# Altium schematic symbol library resistor.SCHLIB: 767 symbols (part 4 of 4)
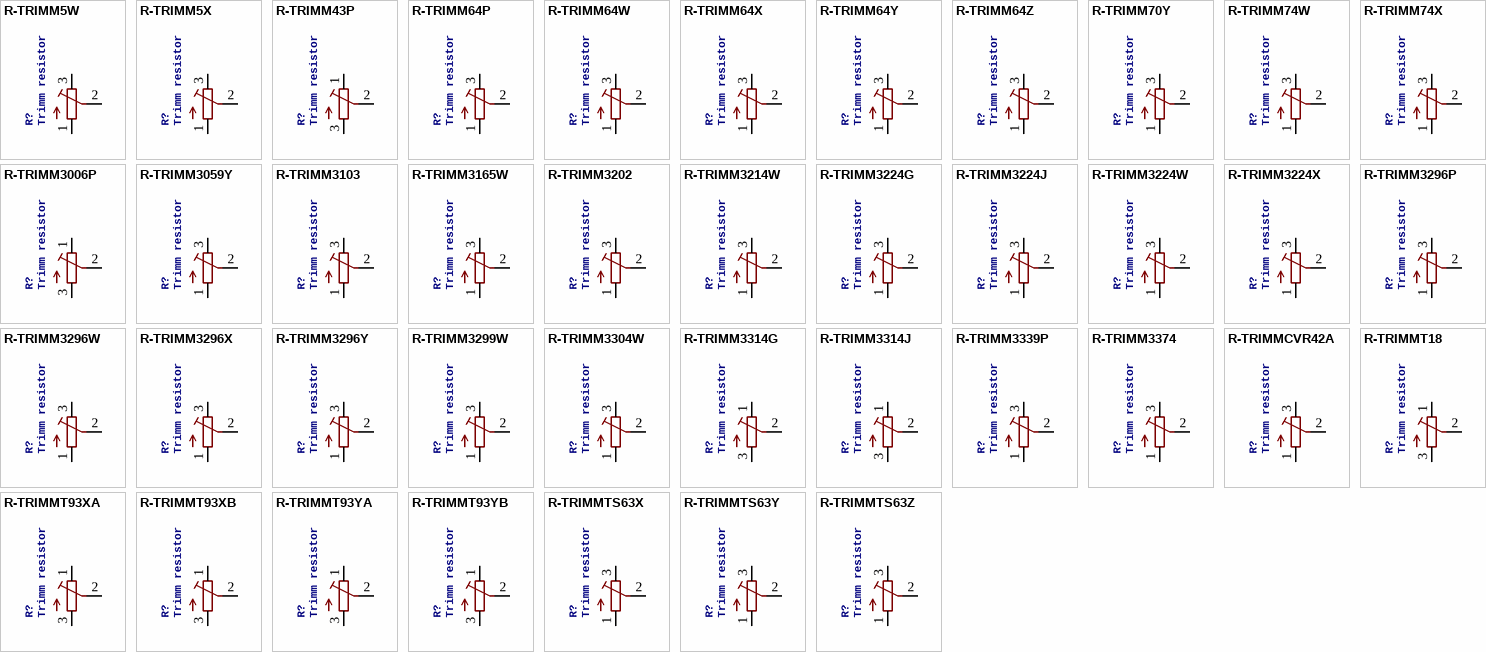
[diagram p22: symbols R-TRIMM5W to R-TRIMMTS63Z]

## R-TRIMM3296P
designator R?, comment Trimm resistor
GateName_1: G$1; SymbolName_1: R-TRIM-1; DeviceName: 3296P; DeviceSetName: R-TRIMM; LibraryName: resistor; Package: RTRIM3296P
footprint RTRIM3296P
pins: 1 A, 2 S, 3 E

## R-TRIMM3296W
designator R?, comment Trimm resistor
GateName_1: G$1; SymbolName_1: R-TRIM-1; DeviceName: 3296W; DeviceSetName: R-TRIMM; LibraryName: resistor; Package: RTRIM3296W
footprint RTRIM3296W
pins: 1 A, 2 S, 3 E

## R-TRIMM3296X
designator R?, comment Trimm resistor
GateName_1: G$1; SymbolName_1: R-TRIM-1; DeviceName: 3296X; DeviceSetName: R-TRIMM; LibraryName: resistor; Package: RTRIM3296X
footprint RTRIM3296X
pins: 1 A, 2 S, 3 E

## R-TRIMM3296Y
designator R?, comment Trimm resistor
GateName_1: G$1; SymbolName_1: R-TRIM-1; DeviceName: 3296Y; DeviceSetName: R-TRIMM; LibraryName: resistor; Package: RTRIM3296Y
footprint RTRIM3296Y
pins: 1 A, 2 S, 3 E

## R-TRIMM3299W
designator R?, comment Trimm resistor
GateName_1: G$1; SymbolName_1: R-TRIM-1; DeviceName: 3299W; DeviceSetName: R-TRIMM; LibraryName: resistor; Package: RTRIM3299W
footprint RTRIM3299W
pins: 1 A, 2 S, 3 E

## R-TRIMM3304W
designator R?, comment Trimm resistor
GateName_1: G$1; SymbolName_1: R-TRIM-1; DeviceName: 3304W; DeviceSetName: R-TRIMM; LibraryName: resistor; Package: RTRIM3304W
footprint RTRIM3304W
pins: 1 A, 2 S, 3 E

## R-TRIMM3314G
designator R?, comment Trimm resistor
GateName_1: G$1; SymbolName_1: R-TRIM-1; DeviceName: 3314G; DeviceSetName: R-TRIMM; LibraryName: resistor; Package: RTRIM3314G
footprint RTRIM3314G
pins: 1 E, 2 S, 3 A

## R-TRIMM3314J
designator R?, comment Trimm resistor
GateName_1: G$1; SymbolName_1: R-TRIM-1; DeviceName: 3314J; DeviceSetName: R-TRIMM; LibraryName: resistor; Package: RTRIM3314J
footprint RTRIM3314J
pins: 1 E, 2 S, 3 A

## R-TRIMM3339P
designator R?, comment Trimm resistor
GateName_1: G$1; SymbolName_1: R-TRIM-1; DeviceName: 3339P; DeviceSetName: R-TRIMM; LibraryName: resistor; Package: RTRIM3339P
footprint RTRIM3339P
pins: 1 A, 2 S, 3 E

## R-TRIMM3374
designator R?, comment Trimm resistor
GateName_1: G$1; SymbolName_1: R-TRIM-1; DeviceName: 3374; DeviceSetName: R-TRIMM; LibraryName: resistor; Package: RTRIM3374
footprint RTRIM3374
pins: 1 A, 2 S, 3 E

## R-TRIMMCVR42A
designator R?, comment Trimm resistor
GateName_1: G$1; SymbolName_1: R-TRIM-1; DeviceName: CVR42A; DeviceSetName: R-TRIMM; LibraryName: resistor; Package: RTRIMCVR42A
footprint RTRIMCVR42A
pins: 1 A, 2 S, 3 E

## R-TRIMMT18
designator R?, comment Trimm resistor
GateName_1: G$1; SymbolName_1: R-TRIM-1; DeviceName: T18; DeviceSetName: R-TRIMM; LibraryName: resistor; Package: RTRIMT18
footprint RTRIMT18
pins: 1 E, 2 S, 3 A

## R-TRIMMT93XA
designator R?, comment Trimm resistor
GateName_1: G$1; SymbolName_1: R-TRIM-1; DeviceName: T93XA; DeviceSetName: R-TRIMM; LibraryName: resistor; Package: RTRIMT93XA
footprint RTRIMT93XA
pins: 1 E, 2 S, 3 A

## R-TRIMMT93XB
designator R?, comment Trimm resistor
GateName_1: G$1; SymbolName_1: R-TRIM-1; DeviceName: T93XB; DeviceSetName: R-TRIMM; LibraryName: resistor; Package: RTRIMT93XB
footprint RTRIMT93XB
pins: 1 E, 2 S, 3 A

## R-TRIMMT93YA
designator R?, comment Trimm resistor
GateName_1: G$1; SymbolName_1: R-TRIM-1; DeviceName: T93YA; DeviceSetName: R-TRIMM; LibraryName: resistor; Package: RTRIMT93YA
footprint RTRIMT93YA
pins: 1 E, 2 S, 3 A

## R-TRIMMT93YB
designator R?, comment Trimm resistor
GateName_1: G$1; SymbolName_1: R-TRIM-1; DeviceName: T93YB; DeviceSetName: R-TRIMM; LibraryName: resistor; Package: RTRIMT93YB
footprint RTRIMT93YB
pins: 1 E, 2 S, 3 A

## R-TRIMMTS63X
designator R?, comment Trimm resistor
GateName_1: G$1; SymbolName_1: R-TRIM-1; DeviceName: TS63X; DeviceSetName: R-TRIMM; LibraryName: resistor; Package: RTRIMTS63X
footprint RTRIMTS63X
pins: 1 A, 2 S, 3 E

## R-TRIMMTS63Y
designator R?, comment Trimm resistor
GateName_1: G$1; SymbolName_1: R-TRIM-1; DeviceName: TS63Y; DeviceSetName: R-TRIMM; LibraryName: resistor; Package: RTRIMTS63Y
footprint RTRIMTS63Y
pins: 1 A, 2 S, 3 E

## R-TRIMMTS63Z
designator R?, comment Trimm resistor
GateName_1: G$1; SymbolName_1: R-TRIM-1; DeviceName: TS63Z; DeviceSetName: R-TRIMM; LibraryName: resistor; Package: RTRIMTS63Z
footprint RTRIMTS63Z
pins: 1 A, 2 S, 3 E

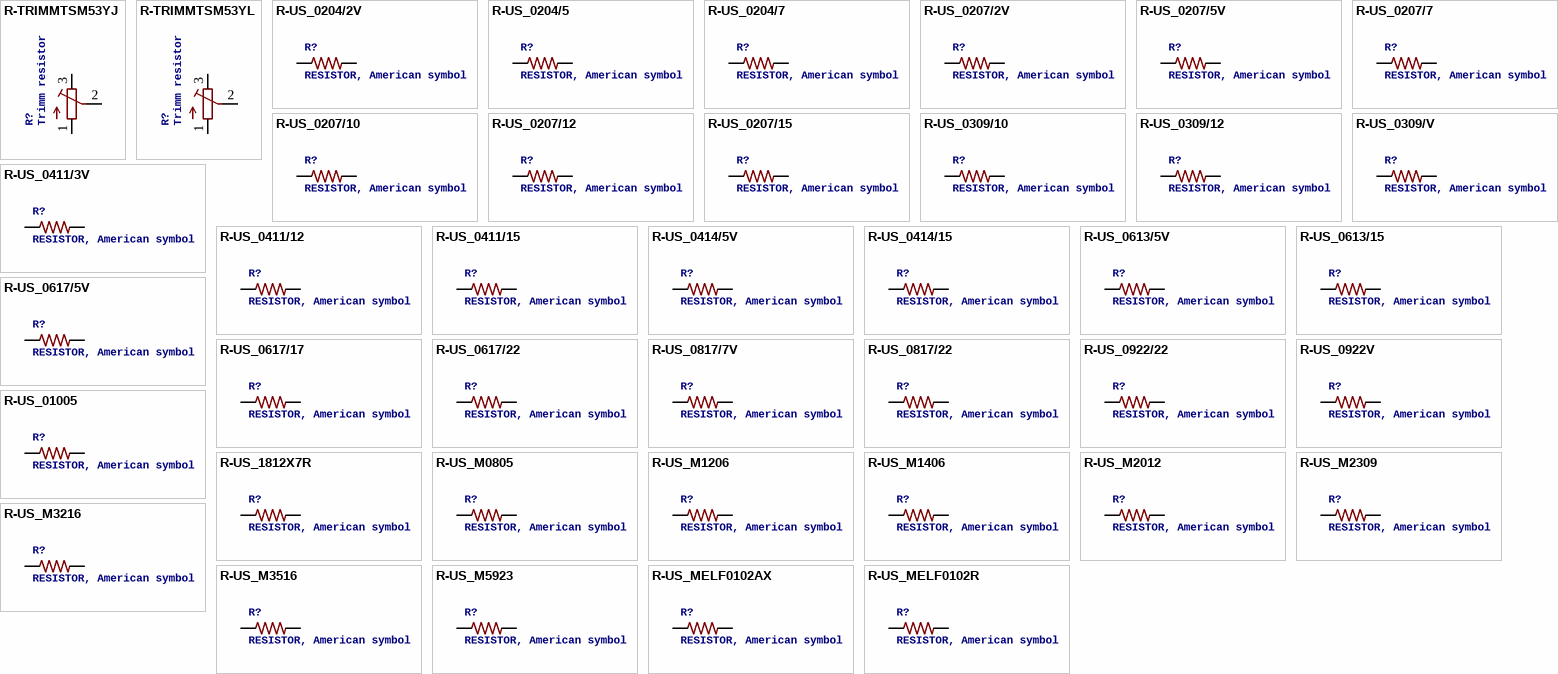
[diagram p17: symbols R-TRIMMTSM53YJ to R-US_MELF0102R]

## R-TRIMMTSM53YJ
designator R?, comment Trimm resistor
GateName_1: G$1; SymbolName_1: R-TRIM-1; DeviceName: TSM53YJ; DeviceSetName: R-TRIMM; LibraryName: resistor; Package: RTRIMTSM53YJ
footprint RTRIMTSM53YJ
pins: 1 A, 2 S, 3 E

## R-TRIMMTSM53YL
designator R?, comment Trimm resistor
GateName_1: G$1; SymbolName_1: R-TRIM-1; DeviceName: TSM53YL; DeviceSetName: R-TRIMM; LibraryName: resistor; Package: RTRIMTSM53YL
footprint RTRIMTSM53YL
pins: 1 A, 2 S, 3 E

## R-US_0204/2V
designator R?, comment RESISTOR, American symbol
GateName_1: G$1; SymbolName_1: R-US; DeviceName: 0204/2V; DeviceSetName: R-US_; LibraryName: resistor; Package: 0204V
footprint 0204V
pins: 1, 2

## R-US_0204/5
designator R?, comment RESISTOR, American symbol
GateName_1: G$1; SymbolName_1: R-US; DeviceName: 0204/5; DeviceSetName: R-US_; LibraryName: resistor; Package: 0204/5
footprint 0204/5
pins: 1, 2

## R-US_0204/7
designator R?, comment RESISTOR, American symbol
GateName_1: G$1; SymbolName_1: R-US; DeviceName: 0204/7; DeviceSetName: R-US_; LibraryName: resistor; Package: 0204/7
footprint 0204/7
pins: 1, 2

## R-US_0207/2V
designator R?, comment RESISTOR, American symbol
GateName_1: G$1; SymbolName_1: R-US; DeviceName: 0207/2V; DeviceSetName: R-US_; LibraryName: resistor; Package: 0207/2V
footprint 0207/2V
pins: 1, 2

## R-US_0207/5V
designator R?, comment RESISTOR, American symbol
GateName_1: G$1; SymbolName_1: R-US; DeviceName: 0207/5V; DeviceSetName: R-US_; LibraryName: resistor; Package: 0207/5V
footprint 0207/5V
pins: 1, 2

## R-US_0207/7
designator R?, comment RESISTOR, American symbol
GateName_1: G$1; SymbolName_1: R-US; DeviceName: 0207/7; DeviceSetName: R-US_; LibraryName: resistor; Package: 0207/7
footprint 0207/7
pins: 1, 2

## R-US_0207/10
designator R?, comment RESISTOR, American symbol
GateName_1: G$1; SymbolName_1: R-US; DeviceName: 0207/10; DeviceSetName: R-US_; LibraryName: resistor; Package: 0207/10
footprint 0207/10
pins: 1, 2

## R-US_0207/12
designator R?, comment RESISTOR, American symbol
GateName_1: G$1; SymbolName_1: R-US; DeviceName: 0207/12; DeviceSetName: R-US_; LibraryName: resistor; Package: 0207/12
footprint 0207/12
pins: 1, 2

## R-US_0207/15
designator R?, comment RESISTOR, American symbol
GateName_1: G$1; SymbolName_1: R-US; DeviceName: 0207/15; DeviceSetName: R-US_; LibraryName: resistor; Package: 0207/15
footprint 0207/15
pins: 1, 2

## R-US_0309/10
designator R?, comment RESISTOR, American symbol
GateName_1: G$1; SymbolName_1: R-US; DeviceName: 0309/10; DeviceSetName: R-US_; LibraryName: resistor; Package: 0309/10
footprint 0309/10
pins: 1, 2

## R-US_0309/12
designator R?, comment RESISTOR, American symbol
GateName_1: G$1; SymbolName_1: R-US; DeviceName: 0309/12; DeviceSetName: R-US_; LibraryName: resistor; Package: 0309/12
footprint 0309/12
pins: 1, 2

## R-US_0309/V
designator R?, comment RESISTOR, American symbol
GateName_1: G$1; SymbolName_1: R-US; DeviceName: 0309/V; DeviceSetName: R-US_; LibraryName: resistor; Package: 0309V
footprint 0309V
pins: 1, 2

## R-US_0411/3V
designator R?, comment RESISTOR, American symbol
GateName_1: G$1; SymbolName_1: R-US; DeviceName: 0411/3V; DeviceSetName: R-US_; LibraryName: resistor; Package: 0411V
footprint 0411V
pins: 1, 2

## R-US_0411/12
designator R?, comment RESISTOR, American symbol
GateName_1: G$1; SymbolName_1: R-US; DeviceName: 0411/12; DeviceSetName: R-US_; LibraryName: resistor; Package: 0411/12
footprint 0411/12
pins: 1, 2

## R-US_0411/15
designator R?, comment RESISTOR, American symbol
GateName_1: G$1; SymbolName_1: R-US; DeviceName: 0411/15; DeviceSetName: R-US_; LibraryName: resistor; Package: 0411/15
footprint 0411/15
pins: 1, 2

## R-US_0414/5V
designator R?, comment RESISTOR, American symbol
GateName_1: G$1; SymbolName_1: R-US; DeviceName: 0414/5V; DeviceSetName: R-US_; LibraryName: resistor; Package: 0414V
footprint 0414V
pins: 1, 2

## R-US_0414/15
designator R?, comment RESISTOR, American symbol
GateName_1: G$1; SymbolName_1: R-US; DeviceName: 0414/15; DeviceSetName: R-US_; LibraryName: resistor; Package: 0414/15
footprint 0414/15
pins: 1, 2

## R-US_0613/5V
designator R?, comment RESISTOR, American symbol
GateName_1: G$1; SymbolName_1: R-US; DeviceName: 0613/5V; DeviceSetName: R-US_; LibraryName: resistor; Package: P0613V
footprint P0613V
pins: 1, 2

## R-US_0613/15
designator R?, comment RESISTOR, American symbol
GateName_1: G$1; SymbolName_1: R-US; DeviceName: 0613/15; DeviceSetName: R-US_; LibraryName: resistor; Package: P0613/15
footprint P0613/15
pins: 1, 2

## R-US_0617/5V
designator R?, comment RESISTOR, American symbol
GateName_1: G$1; SymbolName_1: R-US; DeviceName: 0617/5V; DeviceSetName: R-US_; LibraryName: resistor; Package: 0617V
footprint 0617V
pins: 1, 2

## R-US_0617/17
designator R?, comment RESISTOR, American symbol
GateName_1: G$1; SymbolName_1: R-US; DeviceName: 0617/17; DeviceSetName: R-US_; LibraryName: resistor; Package: 0617/17
footprint 0617/17
pins: 1, 2

## R-US_0617/22
designator R?, comment RESISTOR, American symbol
GateName_1: G$1; SymbolName_1: R-US; DeviceName: 0617/22; DeviceSetName: R-US_; LibraryName: resistor; Package: 0617/22
footprint 0617/22
pins: 1, 2

## R-US_0817/7V
designator R?, comment RESISTOR, American symbol
GateName_1: G$1; SymbolName_1: R-US; DeviceName: 0817/7V; DeviceSetName: R-US_; LibraryName: resistor; Package: P0817V
footprint P0817V
pins: 1, 2

## R-US_0817/22
designator R?, comment RESISTOR, American symbol
GateName_1: G$1; SymbolName_1: R-US; DeviceName: 0817/22; DeviceSetName: R-US_; LibraryName: resistor; Package: P0817/22
footprint P0817/22
pins: 1, 2

## R-US_0922/22
designator R?, comment RESISTOR, American symbol
GateName_1: G$1; SymbolName_1: R-US; DeviceName: 0922/22; DeviceSetName: R-US_; LibraryName: resistor; Package: 0922/22
footprint 0922/22
pins: 1, 2

## R-US_0922V
designator R?, comment RESISTOR, American symbol
GateName_1: G$1; SymbolName_1: R-US; DeviceName: 0922V; DeviceSetName: R-US_; LibraryName: resistor; Package: 0922V
footprint 0922V
pins: 1, 2

## R-US_01005
designator R?, comment RESISTOR, American symbol
GateName_1: G$1; SymbolName_1: R-US; DeviceName: 01005; DeviceSetName: R-US_; LibraryName: resistor; Package: R01005
footprint R01005
pins: 1, 2

## R-US_1812X7R
designator R?, comment RESISTOR, American symbol
GateName_1: G$1; SymbolName_1: R-US; DeviceName: 1812X7R; DeviceSetName: R-US_; LibraryName: resistor; Package: 1812X7R
footprint 1812X7R
pins: 1, 2

## R-US_M0805
designator R?, comment RESISTOR, American symbol
GateName_1: G$1; SymbolName_1: R-US; DeviceName: M0805; DeviceSetName: R-US_; LibraryName: resistor; Package: M0805
footprint M0805
pins: 1, 2

## R-US_M1206
designator R?, comment RESISTOR, American symbol
GateName_1: G$1; SymbolName_1: R-US; DeviceName: M1206; DeviceSetName: R-US_; LibraryName: resistor; Package: M1206
footprint M1206
pins: 1, 2

## R-US_M1406
designator R?, comment RESISTOR, American symbol
GateName_1: G$1; SymbolName_1: R-US; DeviceName: M1406; DeviceSetName: R-US_; LibraryName: resistor; Package: M1406
footprint M1406
pins: 1, 2

## R-US_M2012
designator R?, comment RESISTOR, American symbol
GateName_1: G$1; SymbolName_1: R-US; DeviceName: M2012; DeviceSetName: R-US_; LibraryName: resistor; Package: M2012
footprint M2012
pins: 1, 2

## R-US_M2309
designator R?, comment RESISTOR, American symbol
GateName_1: G$1; SymbolName_1: R-US; DeviceName: M2309; DeviceSetName: R-US_; LibraryName: resistor; Package: M2309
footprint M2309
pins: 1, 2

## R-US_M3216
designator R?, comment RESISTOR, American symbol
GateName_1: G$1; SymbolName_1: R-US; DeviceName: M3216; DeviceSetName: R-US_; LibraryName: resistor; Package: M3216
footprint M3216
pins: 1, 2

## R-US_M3516
designator R?, comment RESISTOR, American symbol
GateName_1: G$1; SymbolName_1: R-US; DeviceName: M3516; DeviceSetName: R-US_; LibraryName: resistor; Package: M3516
footprint M3516
pins: 1, 2

## R-US_M5923
designator R?, comment RESISTOR, American symbol
GateName_1: G$1; SymbolName_1: R-US; DeviceName: M5923; DeviceSetName: R-US_; LibraryName: resistor; Package: M5923
footprint M5923
pins: 1, 2

## R-US_MELF0102AX
designator R?, comment RESISTOR, American symbol
GateName_1: G$1; SymbolName_1: R-US; DeviceName: MELF0102AX; DeviceSetName: R-US_; LibraryName: resistor; Package: MINI_MELF-0102AX
footprint MINI_MELF-0102AX
pins: 1, 2

## R-US_MELF0102R
designator R?, comment RESISTOR, American symbol
GateName_1: G$1; SymbolName_1: R-US; DeviceName: MELF0102R; DeviceSetName: R-US_; LibraryName: resistor; Package: MINI_MELF-0102R
footprint MINI_MELF-0102R
pins: 1, 2

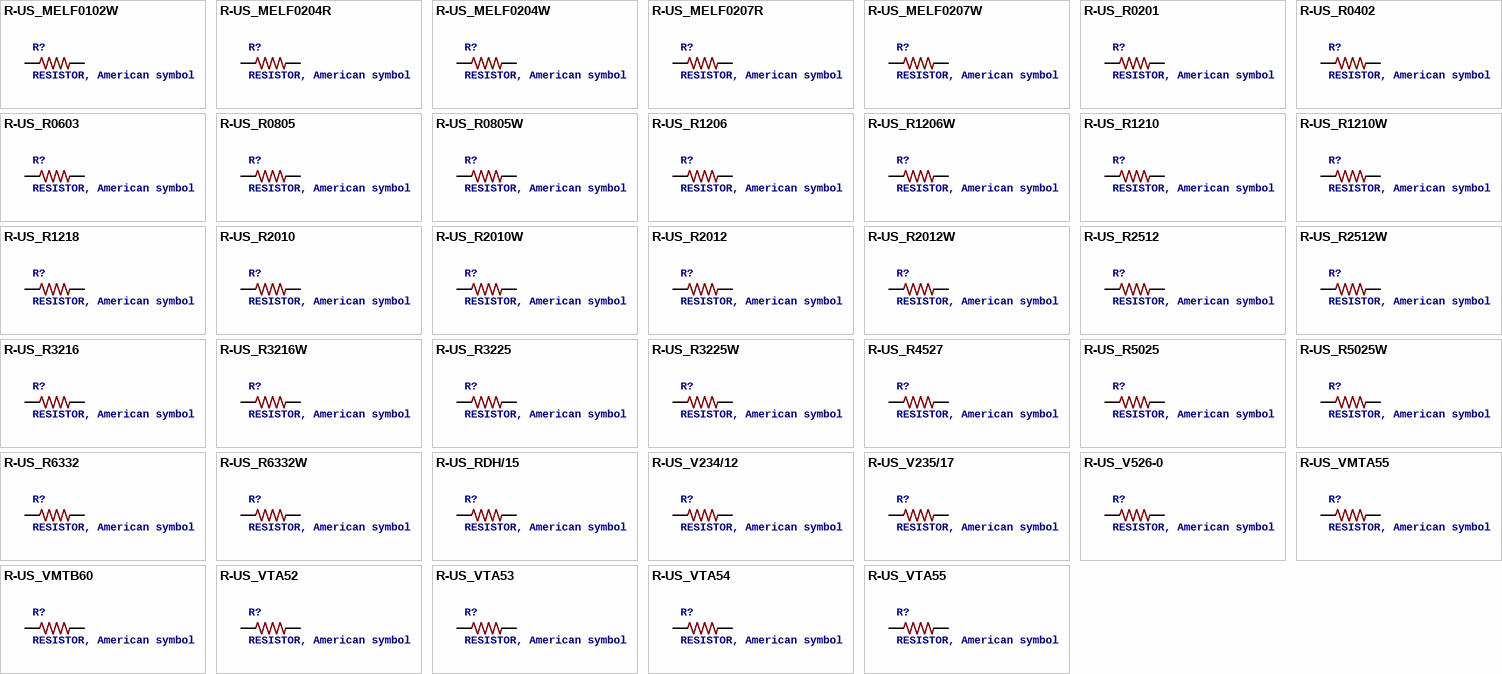
[diagram p18: symbols R-US_MELF0102W to R-US_VTA55]

## R-US_MELF0102W
designator R?, comment RESISTOR, American symbol
GateName_1: G$1; SymbolName_1: R-US; DeviceName: MELF0102W; DeviceSetName: R-US_; LibraryName: resistor; Package: MINI_MELF-0102W
footprint MINI_MELF-0102W
pins: 1, 2

## R-US_MELF0204R
designator R?, comment RESISTOR, American symbol
GateName_1: G$1; SymbolName_1: R-US; DeviceName: MELF0204R; DeviceSetName: R-US_; LibraryName: resistor; Package: MINI_MELF-0204R
footprint MINI_MELF-0204R
pins: 1, 2

## R-US_MELF0204W
designator R?, comment RESISTOR, American symbol
GateName_1: G$1; SymbolName_1: R-US; DeviceName: MELF0204W; DeviceSetName: R-US_; LibraryName: resistor; Package: MINI_MELF-0204W
footprint MINI_MELF-0204W
pins: 1, 2

## R-US_MELF0207R
designator R?, comment RESISTOR, American symbol
GateName_1: G$1; SymbolName_1: R-US; DeviceName: MELF0207R; DeviceSetName: R-US_; LibraryName: resistor; Package: MINI_MELF-0207R
footprint MINI_MELF-0207R
pins: 1, 2

## R-US_MELF0207W
designator R?, comment RESISTOR, American symbol
GateName_1: G$1; SymbolName_1: R-US; DeviceName: MELF0207W; DeviceSetName: R-US_; LibraryName: resistor; Package: MINI_MELF-0207W
footprint MINI_MELF-0207W
pins: 1, 2

## R-US_R0201
designator R?, comment RESISTOR, American symbol
GateName_1: G$1; SymbolName_1: R-US; DeviceName: R0201; DeviceSetName: R-US_; LibraryName: resistor; Package: R0201
footprint R0201
pins: 1, 2

## R-US_R0402
designator R?, comment RESISTOR, American symbol
GateName_1: G$1; SymbolName_1: R-US; DeviceName: R0402; DeviceSetName: R-US_; LibraryName: resistor; Package: R0402
footprint R0402
pins: 1, 2

## R-US_R0603
designator R?, comment RESISTOR, American symbol
GateName_1: G$1; SymbolName_1: R-US; DeviceName: R0603; DeviceSetName: R-US_; LibraryName: resistor; Package: R0603
footprint R0603
pins: 1, 2

## R-US_R0805
designator R?, comment RESISTOR, American symbol
GateName_1: G$1; SymbolName_1: R-US; DeviceName: R0805; DeviceSetName: R-US_; LibraryName: resistor; Package: R0805
footprint R0805
pins: 1, 2

## R-US_R0805W
designator R?, comment RESISTOR, American symbol
GateName_1: G$1; SymbolName_1: R-US; DeviceName: R0805W; DeviceSetName: R-US_; LibraryName: resistor; Package: R0805W
footprint R0805W
pins: 1, 2

## R-US_R1206
designator R?, comment RESISTOR, American symbol
GateName_1: G$1; SymbolName_1: R-US; DeviceName: R1206; DeviceSetName: R-US_; LibraryName: resistor; Package: R1206
footprint R1206
pins: 1, 2

## R-US_R1206W
designator R?, comment RESISTOR, American symbol
GateName_1: G$1; SymbolName_1: R-US; DeviceName: R1206W; DeviceSetName: R-US_; LibraryName: resistor; Package: R1206W
footprint R1206W
pins: 1, 2

## R-US_R1210
designator R?, comment RESISTOR, American symbol
GateName_1: G$1; SymbolName_1: R-US; DeviceName: R1210; DeviceSetName: R-US_; LibraryName: resistor; Package: R1210
footprint R1210
pins: 1, 2

## R-US_R1210W
designator R?, comment RESISTOR, American symbol
GateName_1: G$1; SymbolName_1: R-US; DeviceName: R1210W; DeviceSetName: R-US_; LibraryName: resistor; Package: R1210W
footprint R1210W
pins: 1, 2

## R-US_R1218
designator R?, comment RESISTOR, American symbol
GateName_1: G$1; SymbolName_1: R-US; DeviceName: R1218; DeviceSetName: R-US_; LibraryName: resistor; Package: R1218
footprint R1218
pins: 1, 2

## R-US_R2010
designator R?, comment RESISTOR, American symbol
GateName_1: G$1; SymbolName_1: R-US; DeviceName: R2010; DeviceSetName: R-US_; LibraryName: resistor; Package: R2010
footprint R2010
pins: 1, 2

## R-US_R2010W
designator R?, comment RESISTOR, American symbol
GateName_1: G$1; SymbolName_1: R-US; DeviceName: R2010W; DeviceSetName: R-US_; LibraryName: resistor; Package: R2010W
footprint R2010W
pins: 1, 2

## R-US_R2012
designator R?, comment RESISTOR, American symbol
GateName_1: G$1; SymbolName_1: R-US; DeviceName: R2012; DeviceSetName: R-US_; LibraryName: resistor; Package: R2012
footprint R2012
pins: 1, 2

## R-US_R2012W
designator R?, comment RESISTOR, American symbol
GateName_1: G$1; SymbolName_1: R-US; DeviceName: R2012W; DeviceSetName: R-US_; LibraryName: resistor; Package: R2012W
footprint R2012W
pins: 1, 2

## R-US_R2512
designator R?, comment RESISTOR, American symbol
GateName_1: G$1; SymbolName_1: R-US; DeviceName: R2512; DeviceSetName: R-US_; LibraryName: resistor; Package: R2512
footprint R2512
pins: 1, 2

## R-US_R2512W
designator R?, comment RESISTOR, American symbol
GateName_1: G$1; SymbolName_1: R-US; DeviceName: R2512W; DeviceSetName: R-US_; LibraryName: resistor; Package: R2512W
footprint R2512W
pins: 1, 2

## R-US_R3216
designator R?, comment RESISTOR, American symbol
GateName_1: G$1; SymbolName_1: R-US; DeviceName: R3216; DeviceSetName: R-US_; LibraryName: resistor; Package: R3216
footprint R3216
pins: 1, 2

## R-US_R3216W
designator R?, comment RESISTOR, American symbol
GateName_1: G$1; SymbolName_1: R-US; DeviceName: R3216W; DeviceSetName: R-US_; LibraryName: resistor; Package: R3216W
footprint R3216W
pins: 1, 2

## R-US_R3225
designator R?, comment RESISTOR, American symbol
GateName_1: G$1; SymbolName_1: R-US; DeviceName: R3225; DeviceSetName: R-US_; LibraryName: resistor; Package: R3225
footprint R3225
pins: 1, 2

## R-US_R3225W
designator R?, comment RESISTOR, American symbol
GateName_1: G$1; SymbolName_1: R-US; DeviceName: R3225W; DeviceSetName: R-US_; LibraryName: resistor; Package: R3225W
footprint R3225W
pins: 1, 2

## R-US_R4527
designator R?, comment RESISTOR, American symbol
GateName_1: G$1; SymbolName_1: R-US; DeviceName: R4527; DeviceSetName: R-US_; LibraryName: resistor; Package: R4527
footprint R4527
pins: 1, 2

## R-US_R5025
designator R?, comment RESISTOR, American symbol
GateName_1: G$1; SymbolName_1: R-US; DeviceName: R5025; DeviceSetName: R-US_; LibraryName: resistor; Package: R5025
footprint R5025
pins: 1, 2

## R-US_R5025W
designator R?, comment RESISTOR, American symbol
GateName_1: G$1; SymbolName_1: R-US; DeviceName: R5025W; DeviceSetName: R-US_; LibraryName: resistor; Package: R5025W
footprint R5025W
pins: 1, 2

## R-US_R6332
designator R?, comment RESISTOR, American symbol
GateName_1: G$1; SymbolName_1: R-US; DeviceName: R6332; DeviceSetName: R-US_; LibraryName: resistor; Package: R6332
footprint R6332
pins: 1, 2

## R-US_R6332W
designator R?, comment RESISTOR, American symbol
GateName_1: G$1; SymbolName_1: R-US; DeviceName: R6332W; DeviceSetName: R-US_; LibraryName: resistor; Package: R6332W
footprint R6332W
pins: 1, 2

## R-US_RDH/15
designator R?, comment RESISTOR, American symbol
GateName_1: G$1; SymbolName_1: R-US; DeviceName: RDH/15; DeviceSetName: R-US_; LibraryName: resistor; Package: RDH/15
footprint RDH/15
pins: 1, 2

## R-US_V234/12
designator R?, comment RESISTOR, American symbol
GateName_1: G$1; SymbolName_1: R-US; DeviceName: V234/12; DeviceSetName: R-US_; LibraryName: resistor; Package: V234/12
footprint V234/12
pins: 1, 2

## R-US_V235/17
designator R?, comment RESISTOR, American symbol
GateName_1: G$1; SymbolName_1: R-US; DeviceName: V235/17; DeviceSetName: R-US_; LibraryName: resistor; Package: V235/17
footprint V235/17
pins: 1, 2

## R-US_V526-0
designator R?, comment RESISTOR, American symbol
GateName_1: G$1; SymbolName_1: R-US; DeviceName: V526-0; DeviceSetName: R-US_; LibraryName: resistor; Package: V526-0
footprint V526-0
pins: 1, 2

## R-US_VMTA55
designator R?, comment RESISTOR, American symbol
GateName_1: G$1; SymbolName_1: R-US; DeviceName: VMTA55; DeviceSetName: R-US_; LibraryName: resistor; Package: VMTA55
footprint VMTA55
pins: 1, 2

## R-US_VMTB60
designator R?, comment RESISTOR, American symbol
GateName_1: G$1; SymbolName_1: R-US; DeviceName: VMTB60; DeviceSetName: R-US_; LibraryName: resistor; Package: VMTB60
footprint VMTB60
pins: 1, 2

## R-US_VTA52
designator R?, comment RESISTOR, American symbol
GateName_1: G$1; SymbolName_1: R-US; DeviceName: VTA52; DeviceSetName: R-US_; LibraryName: resistor; Package: VTA52
footprint VTA52
pins: 1, 2

## R-US_VTA53
designator R?, comment RESISTOR, American symbol
GateName_1: G$1; SymbolName_1: R-US; DeviceName: VTA53; DeviceSetName: R-US_; LibraryName: resistor; Package: VTA53
footprint VTA53
pins: 1, 2

## R-US_VTA54
designator R?, comment RESISTOR, American symbol
GateName_1: G$1; SymbolName_1: R-US; DeviceName: VTA54; DeviceSetName: R-US_; LibraryName: resistor; Package: VTA54
footprint VTA54
pins: 1, 2

## R-US_VTA55
designator R?, comment RESISTOR, American symbol
GateName_1: G$1; SymbolName_1: R-US; DeviceName: VTA55; DeviceSetName: R-US_; LibraryName: resistor; Package: VTA55
footprint VTA55
pins: 1, 2

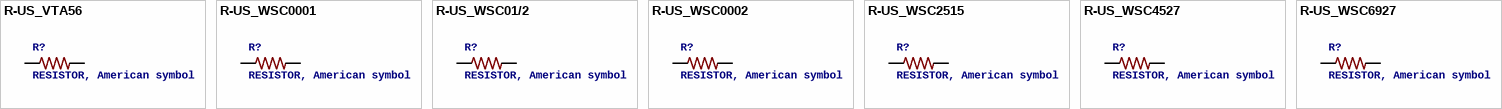
[diagram p19: symbols R-US_VTA56 to R-US_WSC6927]

## R-US_VTA56
designator R?, comment RESISTOR, American symbol
GateName_1: G$1; SymbolName_1: R-US; DeviceName: VTA56; DeviceSetName: R-US_; LibraryName: resistor; Package: VTA56
footprint VTA56
pins: 1, 2

## R-US_WSC0001
designator R?, comment RESISTOR, American symbol
GateName_1: G$1; SymbolName_1: R-US; DeviceName: WSC0001; DeviceSetName: R-US_; LibraryName: resistor; Package: WSC0001
footprint WSC0001
pins: 1, 2

## R-US_WSC01/2
designator R?, comment RESISTOR, American symbol
GateName_1: G$1; SymbolName_1: R-US; DeviceName: WSC01/2; DeviceSetName: R-US_; LibraryName: resistor; Package: WSC01/2
footprint WSC01/2
pins: 1, 2

## R-US_WSC0002
designator R?, comment RESISTOR, American symbol
GateName_1: G$1; SymbolName_1: R-US; DeviceName: WSC0002; DeviceSetName: R-US_; LibraryName: resistor; Package: WSC0002
footprint WSC0002
pins: 1, 2

## R-US_WSC2515
designator R?, comment RESISTOR, American symbol
GateName_1: G$1; SymbolName_1: R-US; DeviceName: WSC2515; DeviceSetName: R-US_; LibraryName: resistor; Package: WSC2515
footprint WSC2515
pins: 1, 2

## R-US_WSC4527
designator R?, comment RESISTOR, American symbol
GateName_1: G$1; SymbolName_1: R-US; DeviceName: WSC4527; DeviceSetName: R-US_; LibraryName: resistor; Package: WSC4527
footprint WSC4527
pins: 1, 2

## R-US_WSC6927
designator R?, comment RESISTOR, American symbol
GateName_1: G$1; SymbolName_1: R-US; DeviceName: WSC6927; DeviceSetName: R-US_; LibraryName: resistor; Package: WSC6927
footprint WSC6927
pins: 1, 2